# Altium footprint library FMTrans.PcbLib: 24 footprints (part 1 of 2)
Each footprint in its own frame and in the unit in brackets; x right, y up, seen from the top. Pads: shape width x height; smd on the part's side, far side on the other; paste and mask are expansions set on the pad; w line width, h text height; cw(c..) or ccw(c..) is an arc to the next point about the centre after c.
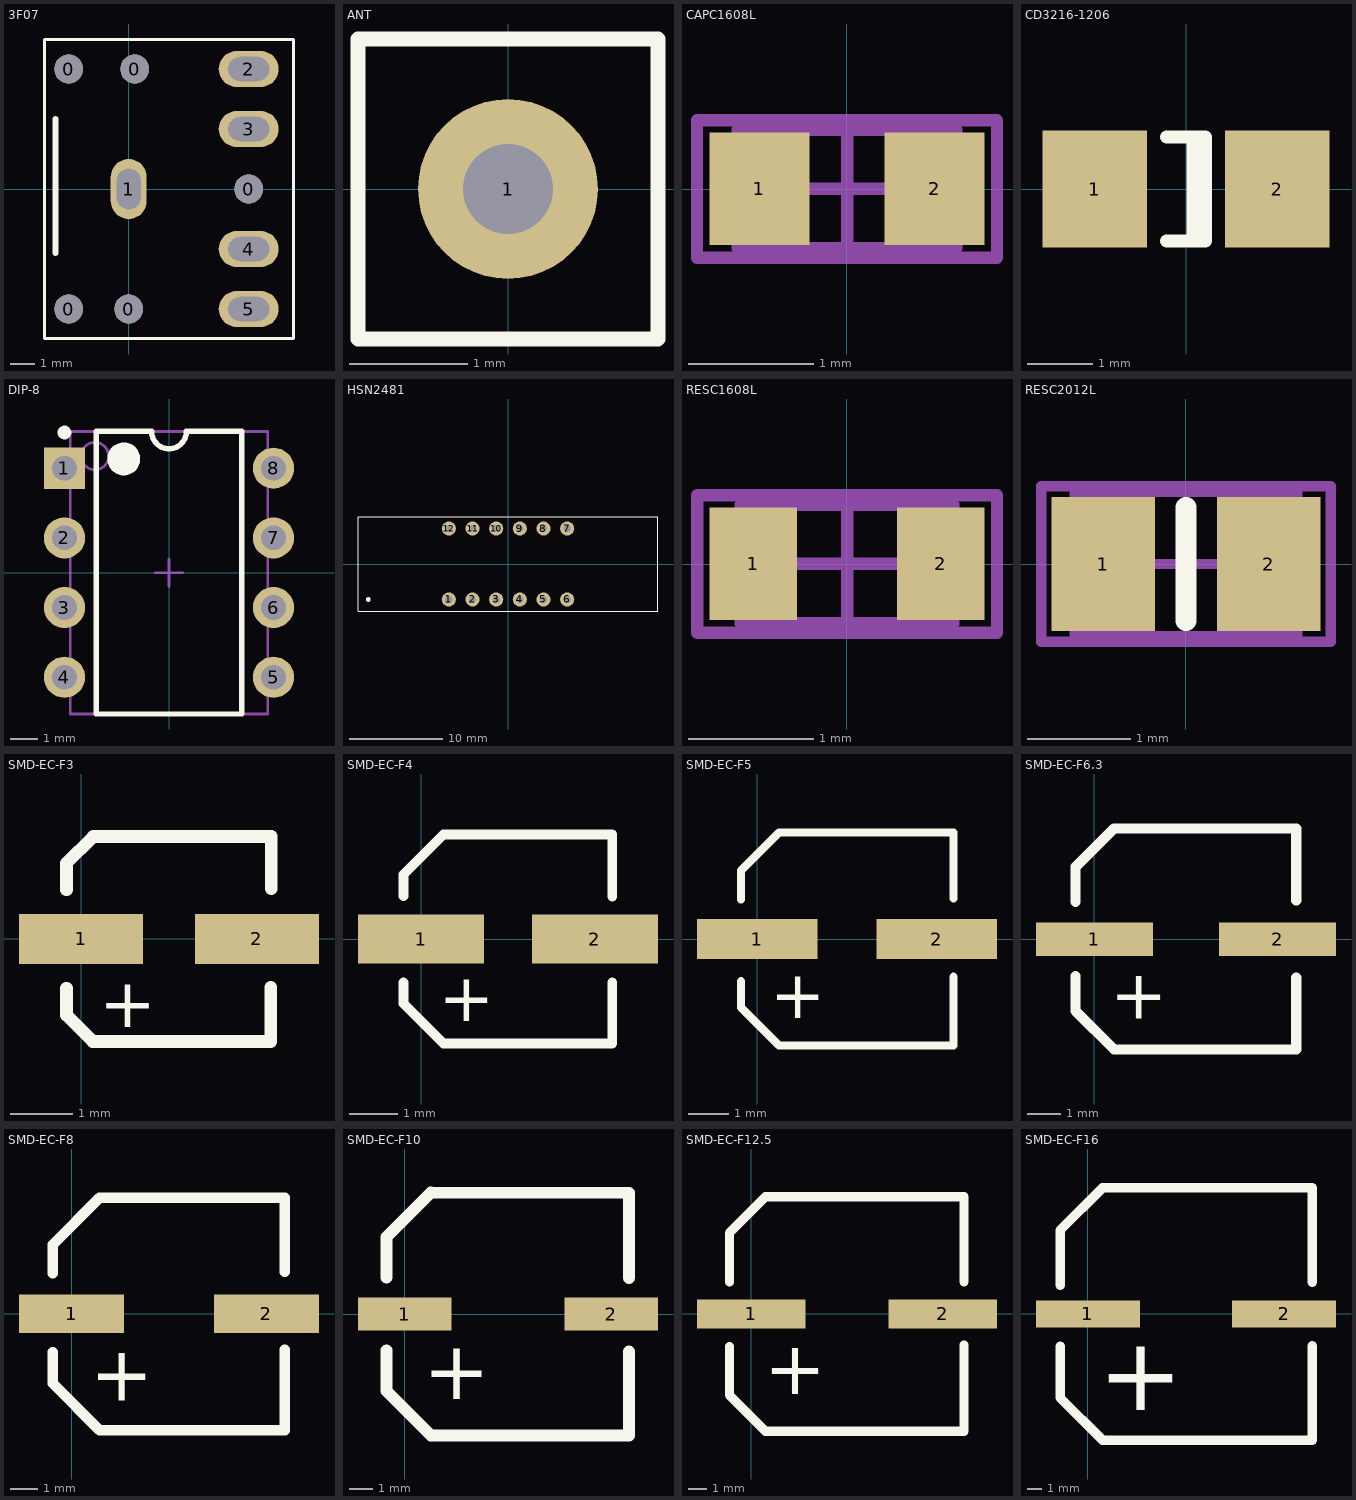
[diagram p0: the footprints below, top view; thin cyan lines are the x and y axes]

## 3F07 [mm]
pads (10):
  round 1.2 hole 1.2 mask+0: 0(-2.5,-5) 0(-2.5,5) 0(0,-5) 0(0.25,5) 0(5,0)
  oval 1.5x2.5 hole 1 slot 1.7 at 90 deg: 1(0,0)
  oval 2.5x1.5 hole 1 slot 1.7 at 0 deg: 2(5,5) 3(5,2.5) 4(5,-2.5) 5(5,-5)
Top Overlay:
  lines w0.127: -3.5,-6.223 6.858,-6.223 6.858,6.223 -3.5,6.223 -3.5,-6.223
  lines w0.254: -3.048,-2.667 -3.048,2.921

## ANT [mil] "ANT"
pads (1):
  round 60 hole 30: 1(0,0)
Top Overlay:
  lines w5: -50,-50 50,-50 50,50 -50,50 -50,-50

## CAPC1608L [mm] "Chip Capacitor, Body 1.6x0.8mm, IPC High Density"
height 0.85
pads (2):
  rect 0.8x0.9 smd: 1(-0.7,0) 2(0.7,0)
Mechanical 13:
  lines w0.1: -0.875,-0.475 0.875,-0.475 0.875,0.475 -0.875,0.475 -0.875,-0.475
Mechanical 15:
  lines w0.1: -0.475,0 0.475,0 ; 0,-0.475 0,0.475 ; -1.2,-0.55 1.2,-0.55 1.2,0.55 -1.2,0.55 -1.2,-0.55
3D body: height 0.85, standoff 0, extent -0.875,-0.475 0.875,0.475

## CD3216-1206 [mm] "Chip Diode; Body 3.2 x 1.6 mm (LxW typ)"
height 1.35
pads (2):
  rect 1.6x1.8 smd: 1(-1.4,0) 2(1.4,0)
Top Overlay:
  lines w0.2: -0.3,-0.8 0.3,-0.8 0.3,0.8 -0.3,0.8 ; 0.11,-0.8 0.11,0.8

## DIP-8 [mm] "DIP; 8 Leads; Row Spacing 7.62 mm; Pitch 2.54 mm"
height 5.08
pads (8):
  rect 1.5x1.5 hole 0.9: 1(-3.81,3.81)
  round 1.5 hole 0.9: 2(-3.81,1.27) 3(-3.81,-1.27) 4(-3.81,-3.81) 5(3.81,-3.81) 6(3.81,-1.27) 7(3.81,1.27) 8(3.81,3.81)
Top Overlay:
  circle w0.25: c-3.81,5.11 r0.125
  circle w0.6: c-1.65,4.15 r0.3
  lines w0.2: -2.65,-5.15 -2.65,5.15 -0.635,5.15 ccw(c0,5.15) 0.635,5.15 2.65,5.15 2.65,-5.15 -2.65,-5.15
Mechanical 13:
  circle w0.1: c-2.7,4.25 r0.5
  lines w0.1: -3.6,-5.15 -3.6,5.15 3.6,5.15 3.6,-5.15 -3.6,-5.15
Mechanical 15:
  lines w0.1: -0.5,0 0.5,0 ; 0,-0.5 0,0.5
3D body: height 5.08, standoff 0, extent -3.6,-5.15 3.6,5.15

## HSN2481 [mil] "HSN2481"
pads (12):
  round 60 hole 31.5: 1(-250,-150) 2(-150,-150) 3(-50,-150) 4(50,-150) 5(150,-150) 6(250,-150) 7(250,150) 8(150,150) 9(50,150) 10(-50,150) 11(-150,150) 12(-250,150)
Top Overlay:
  circle w10: c-590,-150 r5
  lines w5: -633.86,-199.21 633.86,-199.21 633.86,199.21 -633.86,199.21 -633.86,-199.21

## RESC1608L [mm] "Chip Resistor, Body 1.6x0.8mm, IPC High Density"
height 0.6
pads (2):
  rect 0.7x0.9 smd: 1(-0.75,0) 2(0.75,0)
Mechanical 13:
  lines w0.1: -0.85,-0.475 0.85,-0.475 0.85,0.475 -0.85,0.475 -0.85,-0.475
Mechanical 15:
  lines w0.1: -0.475,0 0.475,0 ; 0,-0.475 0,0.475 ; -1.2,-0.55 1.2,-0.55 1.2,0.55 -1.2,0.55 -1.2,-0.55
3D body: height 0.6, standoff 0, extent -0.85,-0.475 0.85,0.475

## RESC2012L [mm] "Chip Resistor, Body 2.0x1.3mm, IPC High Density"
height 0.65
pads (2):
  rect 1x1.3 smd: 1(-0.8,0) 2(0.8,0)
Top Overlay:
  lines w0.2: 0,-0.55 0,0.55
Mechanical 13:
  lines w0.1: -1.075,-0.7 -1.075,0.7 1.075,0.7 1.075,-0.7 -1.075,-0.7
Mechanical 15:
  lines w0.1: -0.5,0 0.5,0 ; 0,-0.5 0,0.5 ; -1.4,-0.75 -1.4,0.75 1.4,0.75 1.4,-0.75 -1.4,-0.75
3D body: height 0.65, standoff 0, extent -1.075,-0.7 1.075,0.7

## SMD-EC-F3 [mm]
pads (2):
  rect 2x0.8 smd: 1(0,0) 2(2.835,0)
Top Overlay:
  lines w0.203: -0.234,-0.794 -0.234,-1.229 0.19,-1.653 3.059,-1.653 3.059,-0.782 ; -0.234,0.791 -0.234,1.222 0.19,1.646 ; 0.195,1.651 3.066,1.651 3.066,0.809
  text "+" at 0.29,-1.426 h0.8

## SMD-EC-F4 [mm]
pads (2):
  rect 2.6x1 smd: 1(0,0) 2(3.579,0)
Top Overlay:
  lines w0.203: -0.364,-0.895 -0.364,-1.324 0.461,-2.15 3.937,-2.15 3.937,-0.895 ; -0.364,0.882 -0.364,1.325 0.461,2.151 3.936,2.151 3.936,0.873
  text "+" at 0.361,-1.69 h1

## SMD-EC-F5 [mm]
pads (2):
  rect 3x1 smd: 1(0,0) 2(4.477,0)
Top Overlay:
  lines w0.203: -0.407,-1.053 -0.407,-1.706 ; -0.407,0.985 -0.407,1.707 0.541,2.655 0.542,2.656 4.89,2.656 4.89,1.009 ; 0.217,-2.33 -0.407,-1.706 ; 4.891,-0.939 4.891,-2.654 0.542,-2.654 0.542,-2.654 -0.407,-1.706
  text "+" at 0.33,-1.97 h1.2

## SMD-EC-F6.3 [mm]
pads (2):
  rect 3.5x1 smd: 1(0,0) 2(5.475,0)
Top Overlay:
  lines w0.305: -0.564,-1.103 -0.564,-2.152 0.587,-3.303 ; -0.564,1.11 -0.564,2.163 0.587,3.314 ; 0.589,-3.305 6.036,-3.305 6.036,-1.15 ; 0.592,3.309 6.036,3.309 6.036,1.16
  text "+" at 0.472,-2.377 h1.5

## SMD-EC-F8 [mm]
pads (2):
  rect 3.8x1.4 smd: 1(0,0) 2(7.051,0)
Top Overlay:
  lines w0.381: -0.686,-1.39 -0.686,-2.52 1.013,-4.219 7.714,-4.219 7.714,-1.303 ; -0.686,1.459 -0.686,2.499 1.013,4.198 7.714,4.198 7.714,1.52
  text "+" at 0.669,-3.14 h2

## SMD-EC-F10 [mm]
pads (2):
  rect 4x1.4 smd: 1(0,0) 2(8.86,0)
Top Overlay:
  lines w0.508: -0.778,-1.551 -0.778,-3.304 1.12,-5.201 9.62,-5.201 9.62,-1.6 ; -0.778,1.572 -0.778,3.306 1.12,5.203 ; 1.123,5.2 9.62,5.2 9.62,1.548
  text "+" at 0.798,-3.656 h2.5

## SMD-EC-F12.5 [mm]
pads (2):
  rect 6x1.6 smd: 1(0,0) 2(10.625,0)
Top Overlay:
  lines w0.508: -1.202,-1.796 -1.202,-4.498 0.799,-6.499 11.797,-6.499 11.797,-1.72 ; -1.202,1.77 -1.202,4.494 0.797,6.493 0.799,6.495 11.797,6.495 11.797,1.781
  text "+" at 0.726,-4.45 h3

## SMD-EC-F16 [mm]
pads (2):
  rect 7x1.8 smd: 1(0,0) 2(13.215,0)
Top Overlay:
  lines w0.635: -1.877,-2.165 -1.877,-5.642 0.981,-8.5 15.123,-8.5 ; -1.877,1.93 -1.877,5.638 0.981,8.497 15.123,8.497 15.122,8.496 15.122,2.145 ; 15.122,-8.499 15.123,-8.5 ; 15.123,-2.131 15.123,-8.5
  text "+" at 0.702,-6.494 h5